# Altium footprint library Teensy 3.2-4.0.PcbLib: 1 footprints
Each footprint in its own frame and in the unit in brackets; x right, y up, seen from the top. Pads: shape width x height; smd on the part's side, far side on the other; paste and mask are expansions set on the pad; w line width, h text height; cw(c..) or ccw(c..) is an arc to the next point about the centre after c.
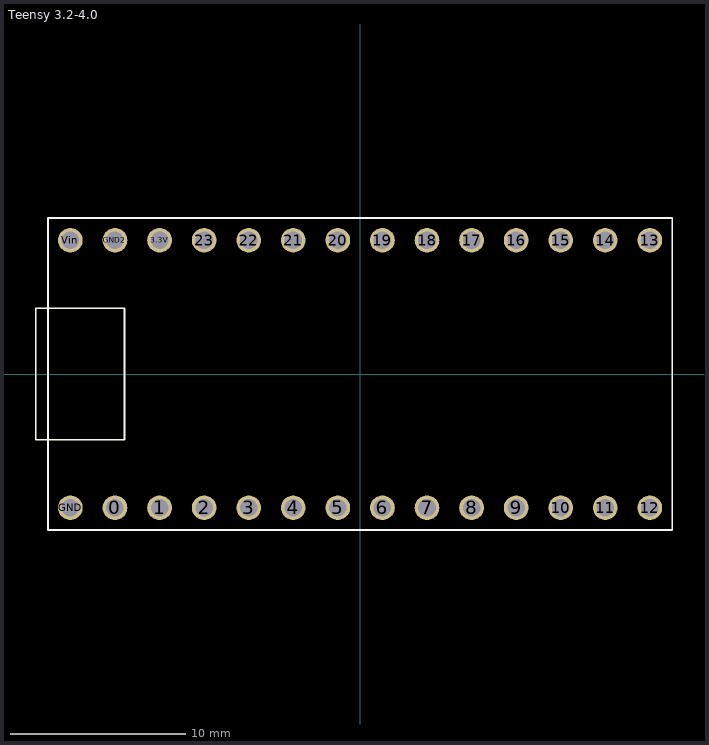
[diagram p0: the footprint, top view; thin cyan lines are the x and y axes]

## Teensy 3.2-4.0 [mm]
pads (28):
  round 1.406 hole 1: 0(-13.97,-7.62) 1(-11.43,-7.62) 2(-8.89,-7.62) 3(-6.35,-7.62) 3.3V(-11.43,7.62) 4(-3.81,-7.62) 5(-1.27,-7.62) 6(1.27,-7.62) 7(3.81,-7.62) 8(6.35,-7.62) 9(8.89,-7.62) 10(11.43,-7.62) 11(13.97,-7.62) 12(16.51,-7.62) 13(16.51,7.62) 14(13.97,7.62) 15(11.43,7.62) 16(8.89,7.62) 17(6.35,7.62) 18(3.81,7.62) 19(1.27,7.62) 20(-1.27,7.62) 21(-3.81,7.62) 22(-6.35,7.62) 23(-8.89,7.62) GND(-16.51,-7.62) GND2(-13.97,7.62) Vin(-16.51,7.62)
Top Overlay:
  lines w0.1: -17.8,-8.89 17.78,-8.89 17.78,8.89 -17.78,8.89 -17.78,-8.89 ; -18.48,-3.75 -13.42,-3.75 -13.42,3.75 -18.48,3.75 -18.48,-3.75
3D body "Teensy_3-2.stp": height 4.39, standoff -2, extent -19.199,-8.9 17.8,8.975